# Altium schematic symbol library TO_220_3_MOSFET.SchLib: 1 symbol
Pins are listed as number, name and electrical type; pins without a type are passive.

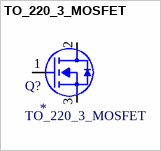
[diagram p0: symbol TO_220_3_MOSFET]

## TO_220_3_MOSFET
designator Q?
N Channel TO-220 MOSFETs ROHS; LCSC: *
footprint TO_220_3_MOSFET
pins: 1 G, 2 D, 3 S